# EAGLE library part GE_SHHD003A0A (library Poe)
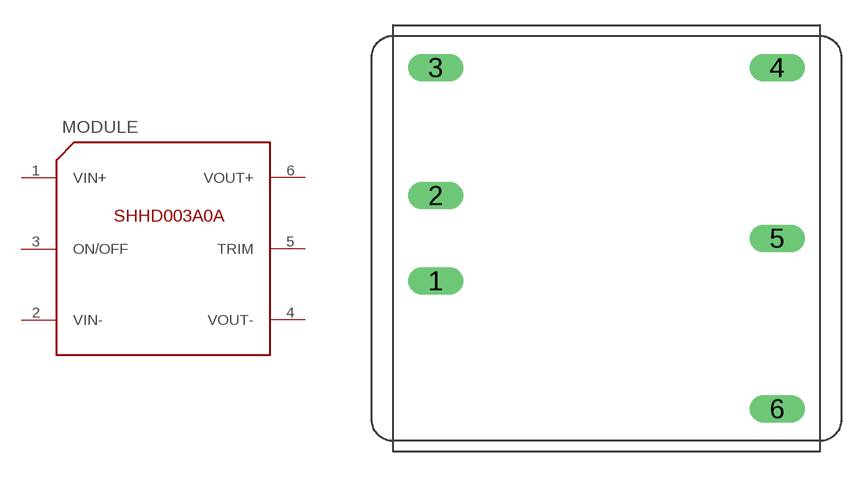
[diagram p14: symbol with the pads of GE_SHHD003A0A_THROUGH_HOLE; footprint GE_SHHD003A0A_THROUGH_HOLE]

Designator prefix MODULE

## GE_SHHD003A0A  [GE_SHHD003A0A_THROUGH_HOLE]
1  VIN+
2  VIN-
3  ON/OFF
4  VOUT-
5  TRIM
6  VOUT+

## Footprint GE_SHHD003A0A_THROUGH_HOLE (pad centres in mm)
drill 1.1 long: 1 -10.16,-2.54; 2 -10.16,2.54; 3 -10.16,10.16; 4 10.16,10.16; 5 10.16,0; 6 10.16,-10.16